# Altium footprint library ICSP_2x3_header.PcbLib: 1 footprints
Each footprint in its own frame and in the unit in brackets; x right, y up, seen from the top. Pads: shape width x height; smd on the part's side, far side on the other; paste and mask are expansions set on the pad; w line width, h text height; cw(c..) or ccw(c..) is an arc to the next point about the centre after c.
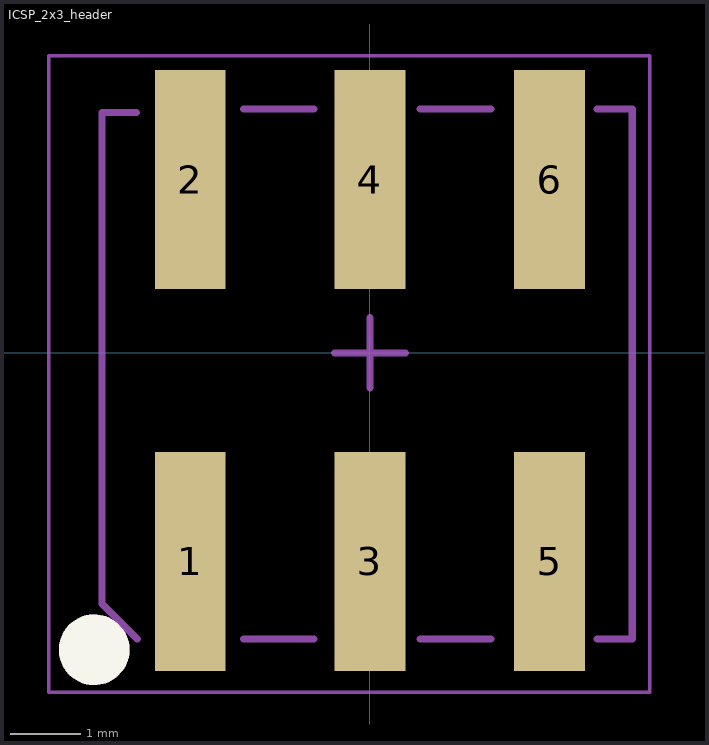
[diagram p0: the footprint, top view; thin cyan lines are the x and y axes]

## ICSP_2x3_header [mm]
pads (6):
  rect 1x3.1 smd: 1(-2.54,-2.95) 2(-2.54,2.45) 3(0,-2.95) 4(0,2.45) 5(2.54,-2.95) 6(2.54,2.45)
Top Overlay:
  circle w0.5: c-3.9,-4.2 r0.25
Mechanical 1:
  circle w0.5: c-3.9,-4.2 r0.25
  lines w0.1: -3.3,3.4 -3.79,3.4 -3.79,-3.55 -3.29,-4.05 ; -1.79,-4.05 -0.79,-4.05 ; -1.79,3.45 -0.79,3.45 ; 0.71,-4.05 1.71,-4.05 ; 0.71,3.45 1.71,3.45 ; 3.21,-4.05 3.71,-4.05 3.71,3.45 3.21,3.45
  text ".Designator" at -3.344,-0.343 h0.65
Mechanical 2:
  lines w0.05: -4.54,-4.8 3.96,-4.8 3.96,4.2 -4.54,4.2 -4.54,-4.8
  lines w0.1: -0.5,0 0.5,0 ; 0,-0.5 0,0.5
3D body "61030621121_Download_STP_61030621121_rev1.stp": height 9.57, standoff -0.03, extent -3.85,-4.05 3.77,3.45